# Altium footprint library Resistors.PcbLib: 21 footprints (part 1 of 2)
Each footprint in its own frame and in the unit in brackets; x right, y up, seen from the top. Pads: shape width x height; smd on the part's side, far side on the other; paste and mask are expansions set on the pad; w line width, h text height; cw(c..) or ccw(c..) is an arc to the next point about the centre after c.
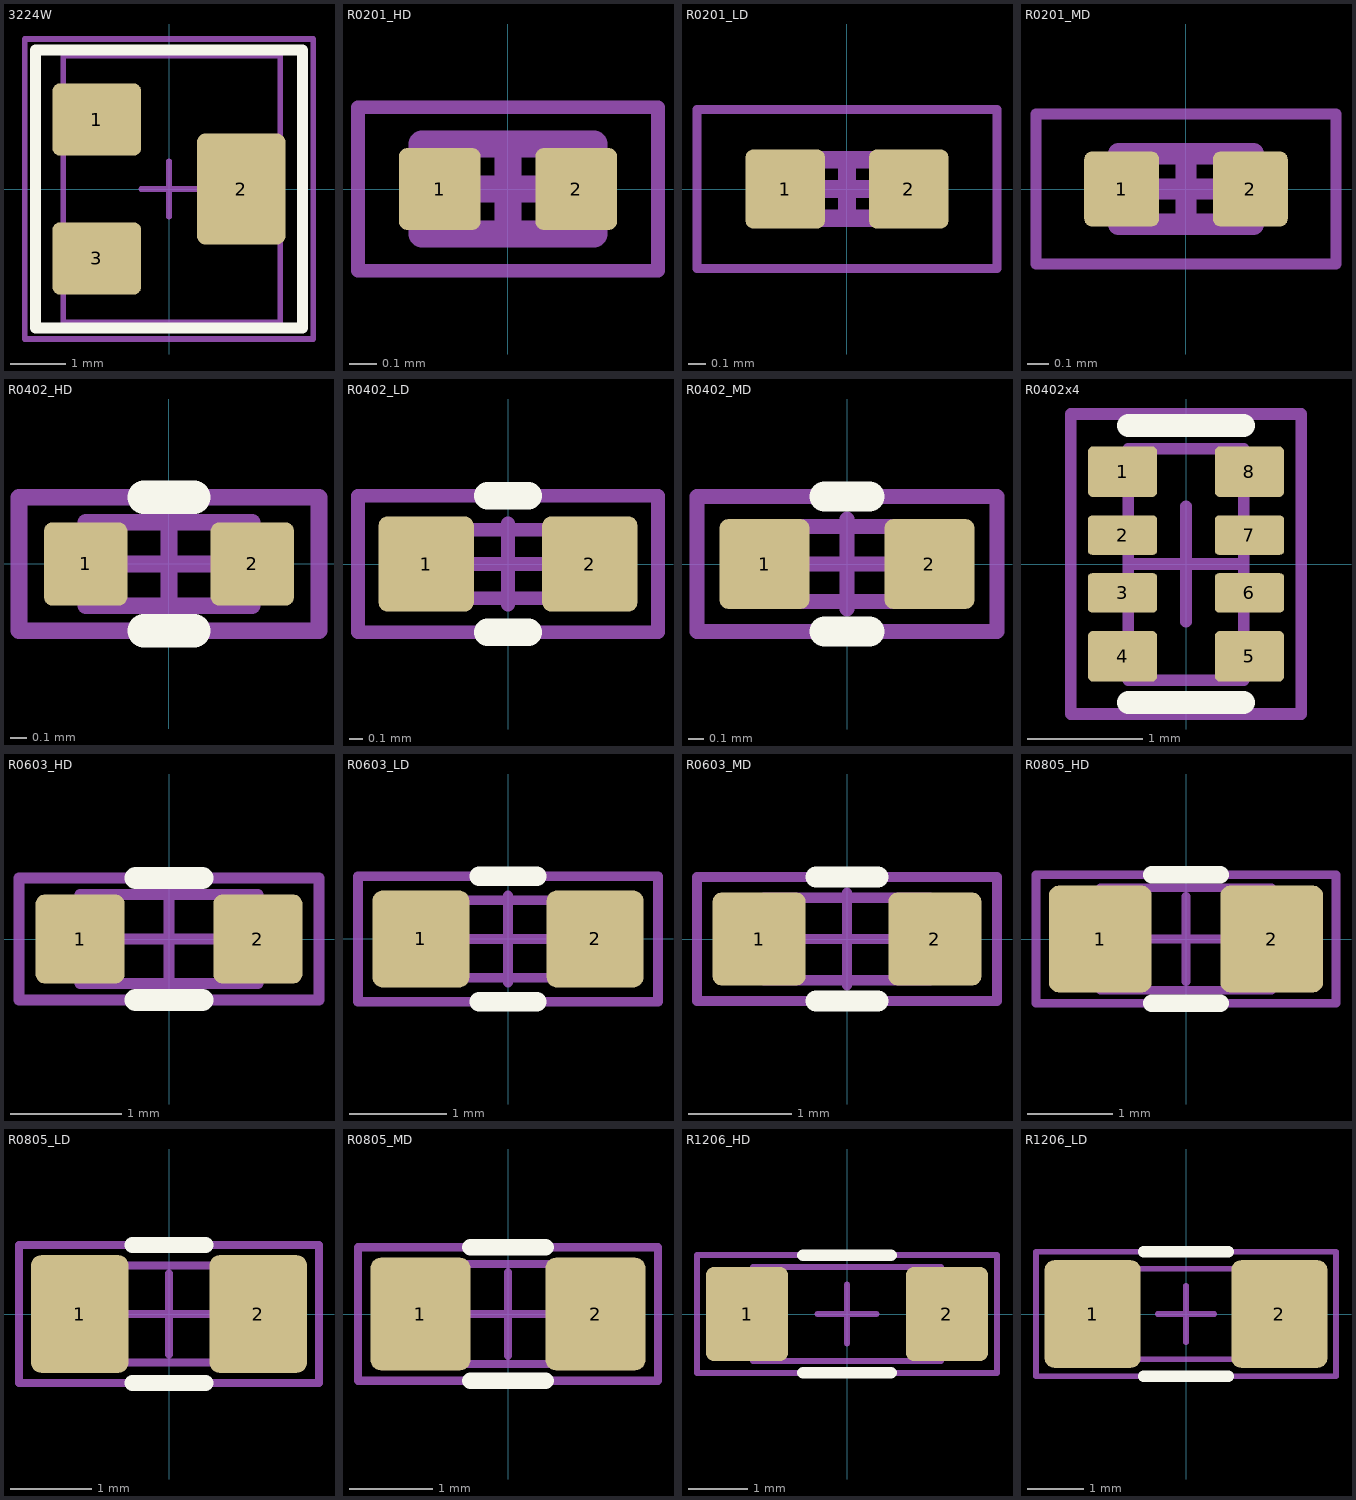
[diagram p0: the footprints below, top view; thin cyan lines are the x and y axes]

## 3224W [mm]
pads (3):
  rrect20% 1.6x1.3 smd: 1(-1.3,1.25) 3(-1.3,-1.25)
  rrect20% 1.6x2 smd: 2(1.3,0)
Top Overlay:
  lines w0.2: -2.4,-2.5 -2.4,2.5 2.4,2.5 2.4,-2.5 -2.4,-2.5
Mechanical 1:
  lines w0.1: -1.9,-2.4 2,-2.4 2,2.4 -1.9,2.4 -1.9,-2.4
Mechanical 15:
  lines w0.1: -0.5,0 0.5,0 ; 0,-0.5 0,0.5 ; -2.6,-2.7 2.6,-2.7 2.6,2.7 -2.6,2.7 -2.6,-2.7
3D body "3224W.STEP": height 5.3, standoff 0, extent -1.9,-2.4 2,2.4

## R0201_HD [mm] "Chip Resistor, 2-Leads, Body 0.60x0.30mm, IPC High Density"
height 0.26
pads (2):
  rrect20% 0.3x0.3 smd: 1(-0.25,0) 2(0.25,0)
Mechanical 1:
  lines w0.1: -0.315,-0.165 -0.315,0.165 0.315,0.165 0.315,-0.165 -0.315,-0.165
Mechanical 15:
  lines w0.05: -0.55,-0.3 0.55,-0.3 0.55,0.3 -0.55,0.3 -0.55,-0.3
  lines w0.1: -0.165,0 0.165,0 ; 0,-0.165 0,0.165
3D body "R_0201_0603Metric.step": height 0.23, standoff 0, extent -0.3,-0.15 0.3,0.15

## R0201_LD [mm] "Chip Resistor, 2-Leads, Body 0.60x0.30mm, IPC Low Density"
height 0.26
pads (2):
  rrect20% 0.45x0.45 smd: 1(-0.35,0) 2(0.35,0)
Mechanical 1:
  lines w0.1: -0.315,-0.165 -0.315,0.165 0.315,0.165 0.315,-0.165 -0.315,-0.165
Mechanical 15:
  lines w0.05: -0.85,-0.45 -0.85,0.45 0.85,0.45 0.85,-0.45 -0.85,-0.45
  lines w0.1: -0.165,0 0.165,0 ; 0,-0.165 0,0.165
3D body "R_0201_0603Metric.step": height 0.23, standoff 0, extent -0.3,-0.15 0.3,0.15

## R0201_MD [mm] "Chip Resistor, 2-Leads, Body 0.60x0.30mm, IPC Medium Density"
height 0.26
pads (2):
  rrect20% 0.35x0.35 smd: 1(-0.3,0) 2(0.3,0)
Mechanical 1:
  lines w0.1: -0.315,-0.165 -0.315,0.165 0.315,0.165 0.315,-0.165 -0.315,-0.165
Mechanical 15:
  lines w0.05: -0.7,-0.35 -0.7,0.35 0.7,0.35 0.7,-0.35 -0.7,-0.35
  lines w0.1: -0.165,0 0.165,0 ; 0,-0.165 0,0.165
3D body "R_0201_0603Metric.step": height 0.23, standoff 0, extent -0.3,-0.15 0.3,0.15

## R0402_HD [mm] "Chip Resistor, 2-Leads, Body 1.0x0.5mm, IPC High Density"
height 0.5
pads (2):
  rrect20% 0.5x0.5 smd: 1(-0.5,0) 2(0.5,0)
Top Overlay:
  lines w0.2: -0.15,-0.4 0.15,-0.4 ; -0.15,0.4 0.15,0.4
Mechanical 1:
  lines w0.1: -0.5,-0.25 0.5,-0.25 0.5,0.25 -0.5,0.25 -0.5,-0.25
Mechanical 15:
  lines w0.1: -0.3,0 0.3,0 ; 0,-0.3 0,0.3 ; -0.9,-0.4 -0.9,0.4 0.9,0.4 0.9,-0.4 -0.9,-0.4
3D body "R_0402_1005Metric.step": height 0.35, standoff 0, extent -0.5,-0.25 0.5,0.25

## R0402_LD [mm] "Chip Resistor, 2-Leads, Body 1.0x0.5mm, IPC Low Density"
height 0.5
pads (2):
  rrect20% 0.7x0.7 smd: 1(-0.6,0) 2(0.6,0)
Top Overlay:
  lines w0.2: -0.15,-0.5 0.15,-0.5 ; -0.15,0.5 0.15,0.5
Mechanical 1:
  lines w0.1: -0.5,-0.25 0.5,-0.25 0.5,0.25 -0.5,0.25 -0.5,-0.25
Mechanical 15:
  lines w0.1: -0.3,0 0.3,0 ; 0,-0.3 0,0.3 ; -1.1,-0.5 -1.1,0.5 1.1,0.5 1.1,-0.5 -1.1,-0.5
3D body "R_0402_1005Metric.step": height 0.35, standoff 0, extent -0.5,-0.25 0.5,0.25

## R0402_MD [mm] "Chip Resistor, 2-Leads, Body 1.0x0.5mm, IPC Medium Density"
height 0.5
pads (2):
  rrect20% 0.6x0.6 smd: 1(-0.55,0) 2(0.55,0)
Top Overlay:
  lines w0.2: -0.15,-0.45 0.15,-0.45 ; -0.15,0.45 0.15,0.45
Mechanical 1:
  lines w0.1: -0.5,-0.25 0.5,-0.25 0.5,0.25 -0.5,0.25 -0.5,-0.25
Mechanical 15:
  lines w0.1: -0.3,0 0.3,0 ; 0,-0.3 0,0.3 ; -1,-0.45 1,-0.45 1,0.45 -1,0.45 -1,-0.45
3D body "R_0402_1005Metric.step": height 0.35, standoff 0, extent -0.5,-0.25 0.5,0.25

## R0402x4 [mm]
pads (8):
  rrect20% 0.6x0.44 smd: 1(-0.55,0.8) 4(-0.55,-0.8) 5(0.55,-0.8) 8(0.55,0.8)
  rrect20% 0.6x0.34 smd: 2(-0.55,0.25) 3(-0.55,-0.25) 6(0.55,-0.25) 7(0.55,0.25)
Top Overlay:
  lines w0.2: -0.5,-1.2 0.5,-1.2 ; -0.5,1.2 0.5,1.2
Mechanical 1:
  lines w0.1: -0.5,-1.008 -0.5,1 0.5,1 0.5,-1.008 -0.5,-1.008
Mechanical 15:
  lines w0.1: -0.5,0 0.5,0 ; 0,-0.5 0,0.5 ; -1,-1.3 1,-1.3 1,1.3 -1,1.3 -1,-1.3
3D body "R_Array_Convex_4x0402.step": height 0.35, standoff 0, extent -0.5,-1 0.5,1

## R0603_HD [mm] "Chip Resistor, 2-Leads, Body 1.6x0.8mm, IPC High Density"
pads (2):
  rrect20% 0.8x0.8 smd: 1(-0.8,0) 2(0.8,0)
Top Overlay:
  lines w0.2: -0.3,-0.55 0.3,-0.55 ; -0.3,0.55 0.3,0.55
Mechanical 1:
  lines w0.1: -0.8,-0.4 -0.8,0.4 0.8,0.4 0.8,-0.4 -0.8,-0.4
Mechanical 15:
  lines w0.1: -0.45,0 0.45,0 ; 0,-0.45 0,0.45 ; -1.35,-0.55 1.35,-0.55 1.35,0.55 -1.35,0.55 -1.35,-0.55
3D body "R_0603_1608Metric.step": height 0.45, standoff 0, extent -0.8,-0.4 0.8,0.4

## R0603_LD [mm] "Chip Resistor, 2-Leads, Body 1.6x0.8mm, IPC Low Density"
pads (2):
  rrect20% 1x1 smd: 1(-0.9,0) 2(0.9,0)
Top Overlay:
  lines w0.2: -0.3,-0.65 0.3,-0.65 ; -0.3,0.65 0.3,0.65
Mechanical 1:
  lines w0.1: -0.8,-0.4 0.8,-0.4 0.8,0.4 -0.8,0.4 -0.8,-0.4
Mechanical 15:
  lines w0.1: -0.45,0 0.45,0 ; 0,-0.45 0,0.45 ; -1.55,-0.65 1.55,-0.65 1.55,0.65 -1.55,0.65 -1.55,-0.65
3D body "R_0603_1608Metric.step": height 0.45, standoff 0, extent -0.8,-0.4 0.8,0.4

## R0603_MD [mm] "Chip Resistor, 2-Leads, Body 1.6x0.8mm, IPC Medium Density Density"
pads (2):
  rrect20% 0.9x0.9 smd: 1(-0.85,0) 2(0.85,0)
Top Overlay:
  lines w0.2: -0.3,-0.6 0.3,-0.6 ; -0.3,0.6 0.3,0.6
Mechanical 1:
  lines w0.1: -0.8,-0.4 -0.8,0.4 0.8,0.4 0.8,-0.4 -0.8,-0.4
Mechanical 15:
  lines w0.1: -0.45,0 0.45,0 ; 0,-0.45 0,0.45 ; -1.45,-0.6 1.45,-0.6 1.45,0.6 -1.45,0.6 -1.45,-0.6
3D body "R_0603_1608Metric.step": height 0.45, standoff 0, extent -0.8,-0.4 0.8,0.4

## R0805_HD [mm] "Chip Resistor, 2-Leads, Body 2.0x1.25mm, IPC High Density"
height 0.6
pads (2):
  rrect20% 1.2x1.25 smd: 1(-1,0) 2(1,0)
Top Overlay:
  lines w0.2: -0.4,-0.75 0.4,-0.75 ; -0.4,0.75 0.4,0.75
Mechanical 1:
  lines w0.1: -1,-0.6 1,-0.6 1,0.6 -1,0.6 -1,-0.6
Mechanical 15:
  lines w0.1: -0.5,0 0.5,0 ; 0,-0.5 0,0.5 ; -1.75,-0.75 1.75,-0.75 1.75,0.75 -1.75,0.75 -1.75,-0.75
3D body "R_0805_2012Metric.step": height 0.45, standoff 0, extent -1,-0.6 1,0.6

## R0805_LD [mm] "Chip Resistor, 2-Leads, Body 2.0x1.25mm, IPC Low Density"
height 0.6
pads (2):
  rrect20% 1.2x1.45 smd: 1(-1.1,0) 2(1.1,0)
Top Overlay:
  lines w0.2: -0.45,-0.85 0.45,-0.85 ; -0.45,0.85 0.45,0.85
Mechanical 1:
  lines w0.1: -1,-0.6 1,-0.6 1,0.6 -1,0.6 -1,-0.6
Mechanical 15:
  lines w0.1: -0.5,0 0.5,0 ; 0,-0.5 0,0.5 ; -1.85,-0.85 1.85,-0.85 1.85,0.85 -1.85,0.85 -1.85,-0.85
3D body "R_0805_2012Metric.step": height 0.45, standoff 0, extent -1,-0.6 1,0.6

## R0805_MD [mm] "Chip Resistor, 2-Leads, Body 2.0x1.25mm, IPC Medium Density"
height 0.6
pads (2):
  rrect20% 1.2x1.35 smd: 1(-1.05,0) 2(1.05,0)
Top Overlay:
  lines w0.2: -0.45,-0.8 0.45,-0.8 ; -0.45,0.8 0.45,0.8
Mechanical 1:
  lines w0.1: -1,-0.6 -1,0.6 1,0.6 1,-0.6 -1,-0.6
Mechanical 15:
  lines w0.1: -0.5,0 0.5,0 ; 0,-0.5 0,0.5 ; -1.8,-0.8 -1.8,0.8 1.8,0.8 1.8,-0.8 -1.8,-0.8
3D body "R_0805_2012Metric.step": height 0.45, standoff 0, extent -1,-0.6 1,0.6

## R1206_HD [mm] "Chip Resistor, 2-Leads, Body 3.2x1.6mm, IPC High Density"
pads (2):
  rrect20% 1.4x1.6 smd: 1(-1.7,0) 2(1.7,0)
Top Overlay:
  lines w0.2: -0.75,-1 0.75,-1 ; -0.75,1 0.75,1
Mechanical 1:
  lines w0.1: -1.6,-0.8 -1.6,0.8 1.6,0.8 1.6,-0.8 -1.6,-0.8
Mechanical 15:
  lines w0.1: -0.5,0 0.5,0 ; 0,-0.5 0,0.5 ; -2.55,-1 -2.55,1 2.55,1 2.55,-1 -2.55,-1
3D body "R_1206_3216Metric.step": height 0.55, standoff 0, extent -1.6,-0.8 1.6,0.8

## R1206_LD [mm] "Chip Resistor, 2-Leads, Body 3.2x1.6mm, IPC Low Density"
pads (2):
  rrect20% 1.7x1.9 smd: 1(-1.65,0) 2(1.65,0)
Top Overlay:
  lines w0.2: -0.75,-1.1 0.75,-1.1 ; -0.75,1.1 0.75,1.1
Mechanical 1:
  lines w0.1: -1.6,-0.8 1.6,-0.8 1.6,0.8 -1.6,0.8 -1.6,-0.8
Mechanical 15:
  lines w0.1: -0.5,0 0.5,0 ; 0,-0.5 0,0.5 ; -2.65,-1.1 -2.65,1.1 2.65,1.1 2.65,-1.1 -2.65,-1.1
3D body "R_1206_3216Metric.step": height 0.55, standoff 0, extent -1.6,-0.8 1.6,0.8